# EAGLE library part M04X2_POWER (library work)
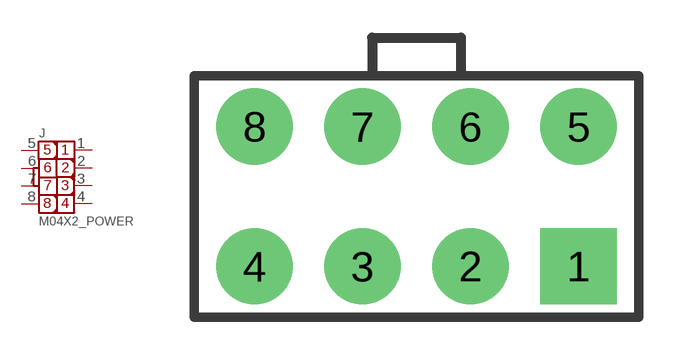
[diagram p18: symbol with the pads of M04X2_POWER; footprint M04X2_POWER]

Designator prefix J

## M04X2_POWER  [M04X2_POWER]
1  1
2  2
3  3
4  4
5  5
6  6
7  7
8  8

## Footprint M04X2_POWER (pad centres in mm)
drill 2.032 pad 3.048 square: 1 6.477,-2.794
drill 2.032 pad 3.048: 2 2.159,-2.794; 3 -2.159,-2.794; 4 -6.477,-2.794; 5 6.477,2.794; 6 2.159,2.794; 7 -2.159,2.794; 8 -6.477,2.794